# Altium schematic symbol library Battery_Voltage.SchLib: 1 symbol
Pins are listed as number, name and electrical type; pins without a type are passive.

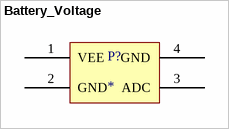
[diagram p0: symbol Battery_Voltage]

## Battery_Voltage
designator P?
footprint PCBComponent_1
pins: 1 VEE, 2 GND, 3 ADC, 4 GND